# Altium schematic symbol library SCH - DRIVER - LED - TI TPS61193-Q1PWP.SchLib: 1 symbol
Pins are listed as number, name and electrical type; pins without a type are passive.

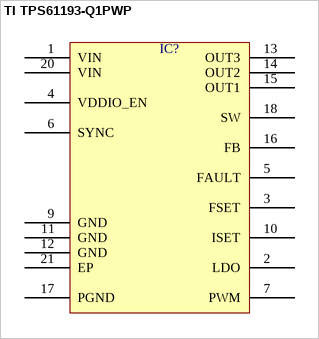
[diagram p0: symbol TI TPS61193-Q1PWP]

## TI TPS61193-Q1PWP
designator IC?  (value not drawn)
pins: 1 VIN, 2 LDO, 3 FSET, 4 VDDIO_EN, 5 FAULT, 6 SYNC, 7 PWM, 9 GND, 10 ISET, 11 GND, 12 GND, 13 OUT3, 14 OUT2, 15 OUT1, 16 FB, 17 PGND, 18 SW, 20 VIN, 21 EP